# Altium schematic symbol library mech_terminal.SchLib: 33 symbols
Pins are listed as number, name and electrical type; pins without a type are passive.

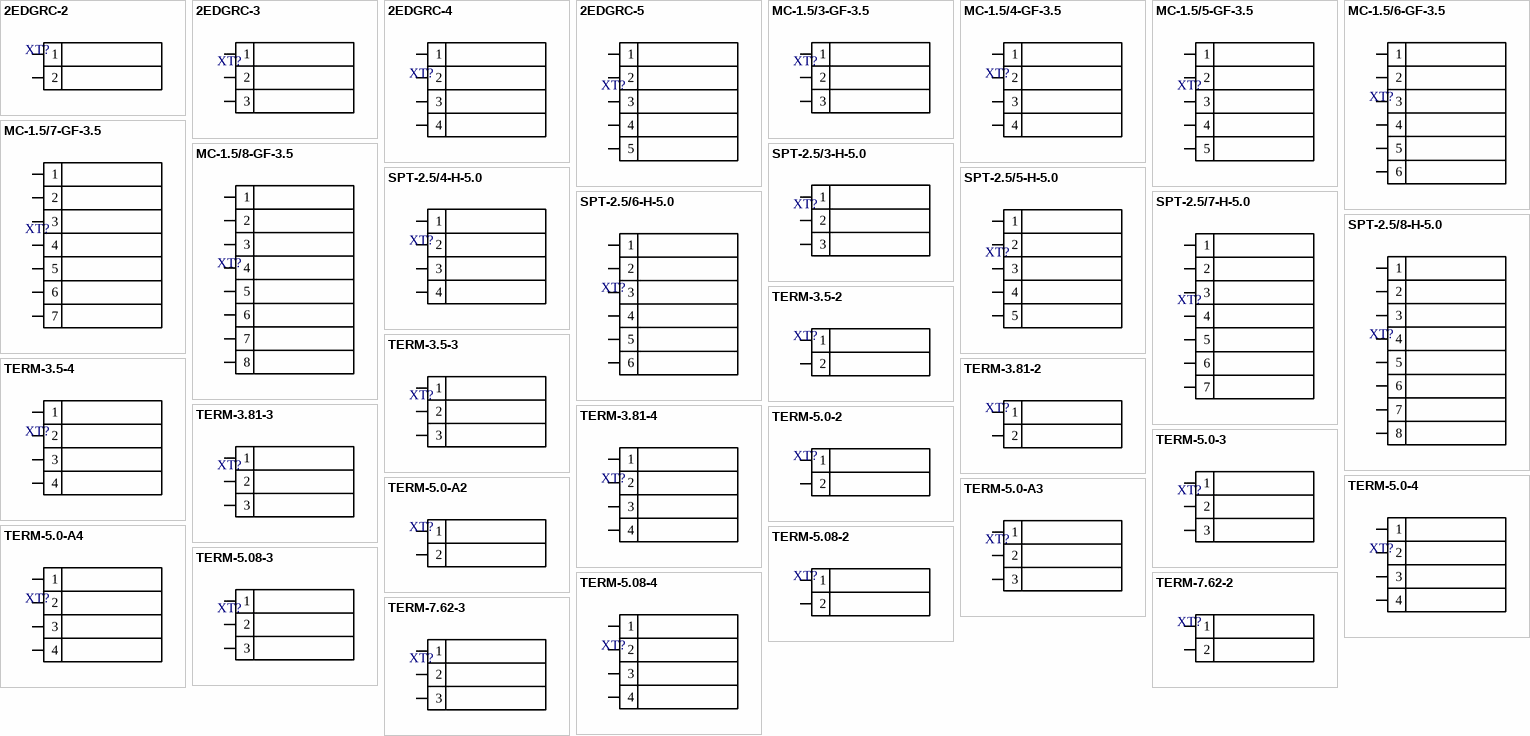
[diagram p0: symbols 2EDGRC-2 to TERM-7.62-3]

## 2EDGRC-2
designator XT?  (value not drawn)
Terminal 2EDGRC; Gap: 5.08 mm; Name: *
footprint 2EDGRC-5.08-2
pins: 1, 2

## 2EDGRC-3
designator XT?  (value not drawn)
Terminal 2EDGRC; Gap: 5.08 mm; Name: *
footprint 2EDGRC-5.08-3
pins: 1, 2, 3

## 2EDGRC-4
designator XT?  (value not drawn)
Terminal 2EDGRC; Gap: 5.08 mm; Name: 2EDGRC-4
footprint 2EDGRC-5.08-4
pins: 1, 2, 3, 4

## 2EDGRC-5
designator XT?  (value not drawn)
Terminal 2EDGRC; Gap: 5.08 mm; Name: 2EDGRC-5
footprint 2EDGRC-5.08-5
pins: 1, 2, 3, 4, 5

## MC-1.5/3-GF-3.5
designator XT?  (value not drawn)
Terminal MC-1.5/3-GF-3.5; Gap: 3.5 mm; Name: *
footprint MC-1.5/3-GF-3.5
pins: 1, 2, 3

## MC-1.5/4-GF-3.5
designator XT?  (value not drawn)
Terminal MC-1.5/4-GF-3.5; Gap: 3.5 mm; Name: *
footprint MC-1.5/4-GF-3.5
pins: 1, 2, 3, 4

## MC-1.5/5-GF-3.5
designator XT?  (value not drawn)
Terminal MC-1.5/5-GF-3.5; Gap: 3.5 mm; Name: *
footprint MC-1.5/5-GF-3.5
pins: 1, 2, 3, 4, 5

## MC-1.5/6-GF-3.5
designator XT?  (value not drawn)
Terminal MC-1.5/6-GF-3.5; Gap: 3.5 mm; Name: *
footprint MC-1.5/6-GF-3.5
pins: 1, 2, 3, 4, 5, 6

## MC-1.5/7-GF-3.5
designator XT?  (value not drawn)
Terminal MC-1.5/7-GF-3.5; Gap: 3.5 mm; Name: *
footprint MC-1.5/7-GF-3.5
pins: 1, 2, 3, 4, 5, 6, 7

## MC-1.5/8-GF-3.5
designator XT?  (value not drawn)
Terminal MC-1.5/8-GF-3.5; Gap: 3.5 mm; Name: *
footprint MC-1.5/8-GF-3.5
pins: 1, 2, 3, 4, 5, 6, 7, 8

## SPT-2.5/3-H-5.0
designator XT?  (value not drawn)
Terminal SPT-2.5/3-H-5.0; Gap: 5.0 mm; Name: SPT-2.5/3-H-5.0
footprint SPT-2.5/3-H-5.0
pins: 1, 2, 3

## SPT-2.5/4-H-5.0
designator XT?  (value not drawn)
Terminal SPT-2.5/4-H-5.0; Gap: 5.0 mm; Name: SPT-2.5/4-H-5.0
footprint SPT-2.5/4-H-5.0
pins: 1, 2, 3, 4

## SPT-2.5/5-H-5.0
designator XT?  (value not drawn)
Terminal SPT-2.5/5-H-5.0; Gap: 5.0 mm; Name: SPT-2.5/5-H-5.0
footprint SPT-2.5/5-H-5.0
pins: 1, 2, 3, 4, 5

## SPT-2.5/6-H-5.0
designator XT?  (value not drawn)
Terminal SPT-2.5/6-H-5.0; Gap: 5.0 mm; Name: SPT-2.5/6-H-5.0
footprint SPT-2.5/6-H-5.0
pins: 1, 2, 3, 4, 5, 6

## SPT-2.5/7-H-5.0
designator XT?  (value not drawn)
Terminal SPT-2.5/7-H-5.0; Gap: 5.0 mm; Name: SPT-2.5/7-H-5.0
footprint SPT-2.5/7-H-5.0
pins: 1, 2, 3, 4, 5, 6, 7

## SPT-2.5/8-H-5.0
designator XT?  (value not drawn)
Terminal SPT-2.5/8-H-5.0; Gap: 5.0 mm; Name: SPT-2.5/8-H-5.0
footprint SPT-2.5/8-H-5.0
pins: 1, 2, 3, 4, 5, 6, 7, 8

## TERM-3.5-2
designator XT?  (value not drawn)
Terminal 3.5 mm; Gap: 3.5 mm; Name: *
footprint TERM-3.5-2
pins: 1, 2

## TERM-3.5-3
designator XT?  (value not drawn)
Terminal 3.5 mm; Gap: 3.5 mm; Name: *
footprint TERM-3.5-3
pins: 1, 2, 3

## TERM-3.5-4
designator XT?  (value not drawn)
Terminal 3.5 mm; Gap: 3.5 mm; Name: *
footprint TERM-3.5-4
pins: 1, 2, 3, 4

## TERM-3.81-2
designator XT?  (value not drawn)
Terminal 3.81 mm; Gap: 3.81 mm; Name: *
footprint TERM-3.81-2
pins: 1, 2

## TERM-3.81-3
designator XT?  (value not drawn)
Terminal 3.81 mm; Gap: 3.81 mm; Name: *
footprint TERM-3.81-3
pins: 1, 2, 3

## TERM-3.81-4
designator XT?  (value not drawn)
Terminal 3.81 mm; Gap: 3.81 mm; Name: *
footprint TERM-3.81-4
pins: 1, 2, 3, 4

## TERM-5.0-2
designator XT?  (value not drawn)
Terminal 5.0 mm; Gap: 5.0 mm; Name: *
footprint TERM-5.0-2
pins: 1, 2

## TERM-5.0-3
designator XT?  (value not drawn)
Terminal 5.0 mm; Gap: 5.0 mm; Name: *
footprint TERM-5.0-3
pins: 1, 2, 3

## TERM-5.0-4
designator XT?  (value not drawn)
Terminal 5.0 mm; Gap: 5.0 mm; Name: *
footprint TERM-5.0-4
pins: 1, 2, 3, 4

## TERM-5.0-A2
designator XT?  (value not drawn)
Terminal Angled 5.0 mm; Gap: 5.0 mm; Name: *
footprint TERM-5.0-2A
pins: 1, 2

## TERM-5.0-A3
designator XT?  (value not drawn)
Terminal Angled 5.0 mm; Gap: 5.0 mm; Name: *
footprint TERM-5.0-3A
pins: 1, 2, 3

## TERM-5.0-A4
designator XT?  (value not drawn)
Terminal Angled 5.0 mm; Gap: 5.0 mm; Name: *
footprint TERM-5.0-4A
pins: 1, 2, 3, 4

## TERM-5.08-2
designator XT?  (value not drawn)
Terminal 5.08 mm; Gap: 5.08 mm; Name: *
footprint TERM-5.08-2
pins: 1, 2

## TERM-5.08-3
designator XT?  (value not drawn)
Terminal 5.08 mm; Gap: 5.08 mm; Name: *
footprint TERM-5.08-3
pins: 1, 2, 3

## TERM-5.08-4
designator XT?  (value not drawn)
Terminal 5.08 mm; Gap: 5.08 mm; Name: *
footprint TERM-5.08-4
pins: 1, 2, 3, 4

## TERM-7.62-2
designator XT?  (value not drawn)
Terminal 7.62 mm; Gap: 7.62 mm; Name: *
footprint TERM-7.62-2
pins: 1, 2

## TERM-7.62-3
designator XT?  (value not drawn)
Terminal 7.62 mm; Gap: 7.62 mm; Name: *
footprint TERM-7.62-3
pins: 1, 2, 3